# EAGLE library part KXN_HEADER_2X10 (library kxnStandard_connector)
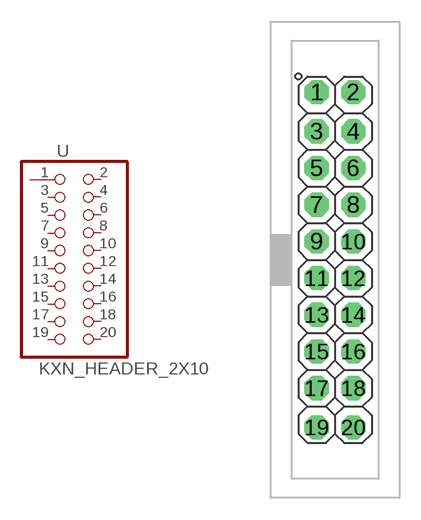
[diagram p18: symbol with the pads of HEADER_2X10_254_LOCK_DC3; footprint HEADER_2X10_254_LOCK_DC3]

Designator prefix -

## KXN_HEADER_2X10_DC3 (CC_SHOP: CongCo)  [HEADER_2X10_254_LOCK_DC3]
1  1  pas
2  2  pas
3  3  pas
4  4  pas
5  5  pas
6  6  pas
7  7  pas
8  8  pas
9  9  pas
10  10  pas
11  11  pas
12  12  pas
13  13  pas
14  14  pas
15  15  pas
16  16  pas
17  17  pas
18  18  pas
19  19  pas
20  20  pas

## Footprint HEADER_2X10_254_LOCK_DC3 (pad centres in mm)
drill 0.95 pad 1.676 octagon: 1 -1.27,11.608; 2 1.27,11.608; 3 -1.27,8.89; 4 1.27,8.89; 5 -1.27,6.35; 6 1.27,6.35; 7 -1.27,3.81; 8 1.27,3.81; 9 -1.27,1.27; 10 1.27,1.27; 11 -1.27,-1.27; 12 1.27,-1.27; 13 -1.27,-3.81; 14 1.27,-3.81; 15 -1.27,-6.35; 16 1.27,-6.35; 17 -1.27,-8.89; 18 1.27,-8.89; 19 -1.27,-11.608; 20 1.27,-11.608